# Altium footprint library RV09H-20SQ.PcbLib: 1 footprints
Each footprint in its own frame and in the unit in brackets; x right, y up, seen from the top. Pads: shape width x height; smd on the part's side, far side on the other; paste and mask are expansions set on the pad; w line width, h text height; cw(c..) or ccw(c..) is an arc to the next point about the centre after c.
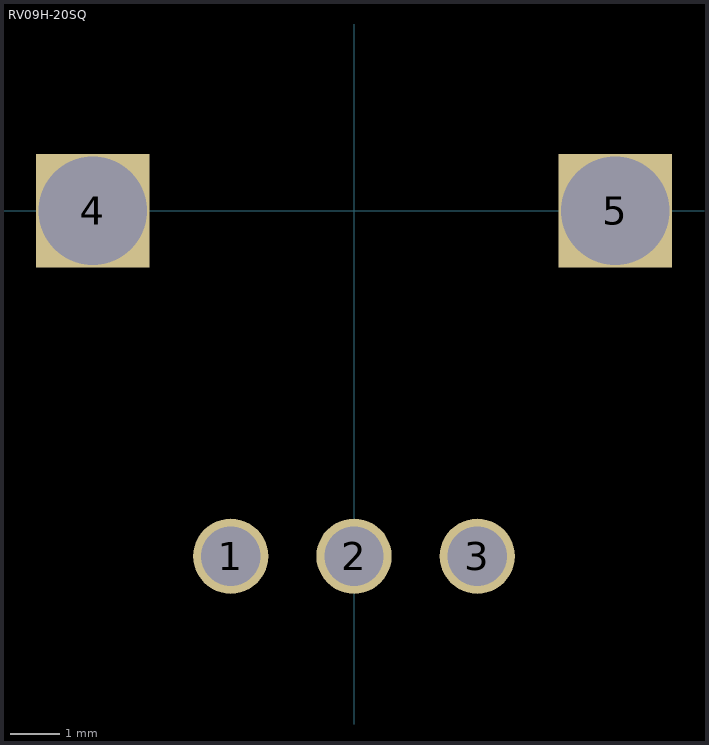
[diagram p0: the footprint, top view; thin cyan lines are the x and y axes]

## RV09H-20SQ [mm]
pads (5):
  round 1.524 hole 1.2: 1(-2.5,-7) 2(0,-7) 3(2.5,-7)
  rect 2.3x2.3 hole 2.2 square: 4(-5.3,0) 5(5.3,0)